# EAGLE library part PIC24FJ*102 (library sevenSegmentWatch)
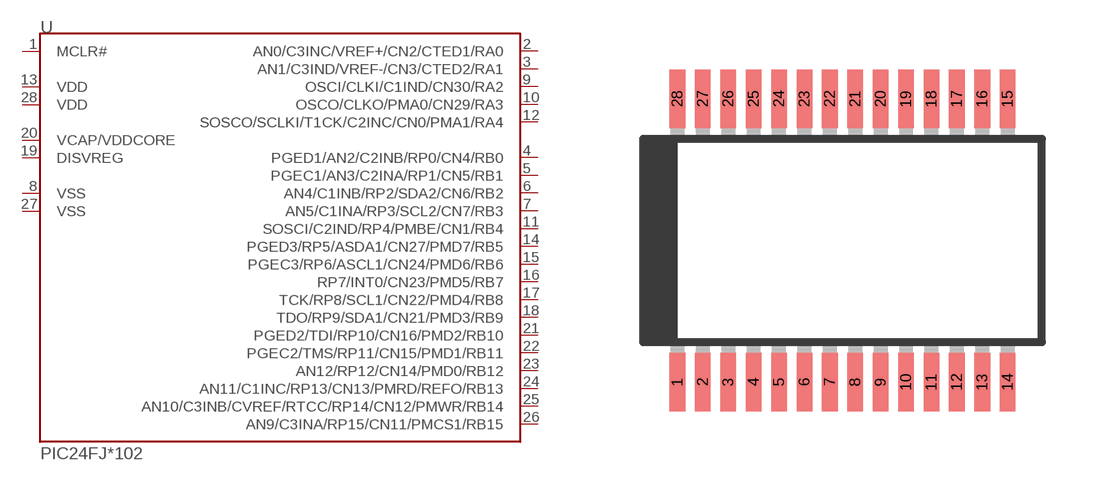
[diagram p2: symbol with the pads of SSOP28; footprint SSOP28]

Designator prefix U

## PIC24FJ32GA102-I/SS  [SSOP28]
1  MCLR#
2  AN0/C3INC/VREF+/CN2/CTED1/RA0
3  AN1/C3IND/VREF-/CN3/CTED2/RA1
4  PGED1/AN2/C2INB/RP0/CN4/RB0
5  PGEC1/AN3/C2INA/RP1/CN5/RB1
6  AN4/C1INB/RP2/SDA2/CN6/RB2
7  AN5/C1INA/RP3/SCL2/CN7/RB3
8  VSS
9  OSCI/CLKI/C1IND/CN30/RA2
10  OSCO/CLKO/PMA0/CN29/RA3
11  SOSCI/C2IND/RP4/PMBE/CN1/RB4
12  SOSCO/SCLKI/T1CK/C2INC/CN0/PMA1/RA4
13  VDD
14  PGED3/RP5/ASDA1/CN27/PMD7/RB5
15  PGEC3/RP6/ASCL1/CN24/PMD6/RB6
16  RP7/INT0/CN23/PMD5/RB7
17  TCK/RP8/SCL1/CN22/PMD4/RB8
18  TDO/RP9/SDA1/CN21/PMD3/RB9
19  DISVREG
20  VCAP/VDDCORE
21  PGED2/TDI/RP10/CN16/PMD2/RB10
22  PGEC2/TMS/RP11/CN15/PMD1/RB11
23  AN12/RP12/CN14/PMD0/RB12
24  AN11/C1INC/RP13/CN13/PMRD/REFO/RB13
25  AN10/C3INB/CVREF/RTCC/RP14/CN12/PMWR/RB14
26  AN9/C3INA/RP15/CN11/PMCS1/RB15
27  VSS
28  VDD

## Footprint SSOP28 (pad centres in mm)
Shrink Small Outline Package package type SS
smd 0.4 x 1.5: 1 -4.225,-3.625; 2 -3.575,-3.625; 3 -2.925,-3.625; 4 -2.275,-3.625; 5 -1.625,-3.625; 6 -0.975,-3.625; 7 -0.325,-3.625; 8 0.325,-3.625; 9 0.975,-3.625; 10 1.625,-3.625; 11 2.275,-3.625; 12 2.925,-3.625; 13 3.575,-3.625; 14 4.225,-3.625; 15 4.225,3.625; 16 3.575,3.625; 17 2.925,3.625; 18 2.275,3.625; 19 1.625,3.625; 20 0.975,3.625; 21 0.325,3.625; 22 -0.325,3.625; 23 -0.975,3.625; 24 -1.625,3.625; 25 -2.275,3.625; 26 -2.925,3.625; 27 -3.575,3.625; 28 -4.225,3.625